# EAGLE library part NCP3170-D (library CougsInSpace)
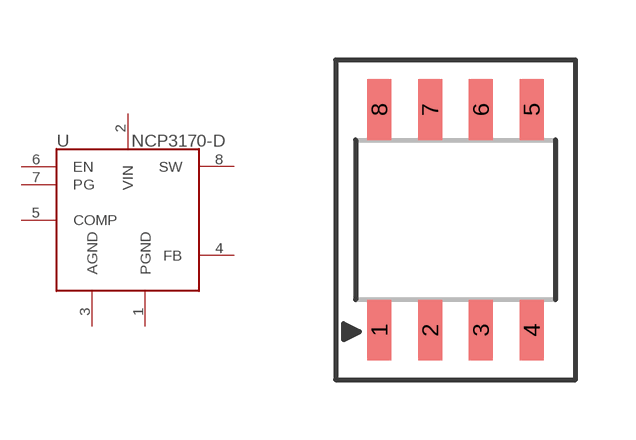
[diagram p22: symbol with the pads of SOIC-8; footprint SOIC-8]

Designator prefix U

## NCP3170-D  [SOIC-8]
1  PGND
2  VIN
3  AGND
4  FB
5  COMP
6  EN
7  PG
8  SW

## Footprint SOIC-8 (pad centres in mm)
smd 0.6 x 1.52: 1 -1.905,-2.76; 2 -0.635,-2.76; 3 0.635,-2.76; 4 1.905,-2.76; 5 1.905,2.76; 6 0.635,2.76; 7 -0.635,2.76; 8 -1.905,2.76